# Altium footprint library PcbLib1.PcbLib: 2 footprints
Each footprint in its own frame and in the unit in brackets; x right, y up, seen from the top. Pads: shape width x height; smd on the part's side, far side on the other; paste and mask are expansions set on the pad; w line width, h text height; cw(c..) or ccw(c..) is an arc to the next point about the centre after c.
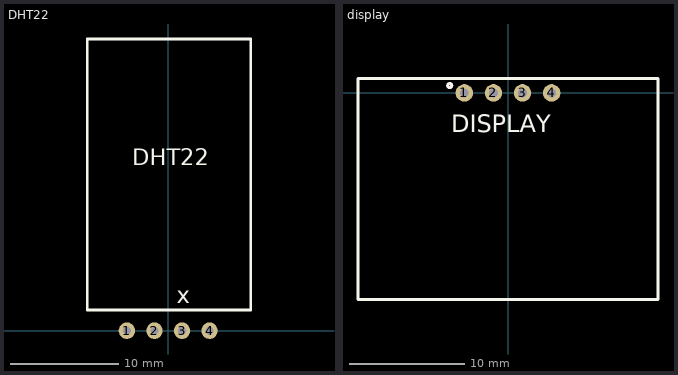
[diagram p0: the footprints below, top view; thin cyan lines are the x and y axes]

## DHT22 [mil]
pads (4):
  round 60 hole 30: 1(-150,0) 2(-50,0) 3(50,0) 4(150,0)
Top Overlay:
  lines w10: -294.49,75 300,75 300,1059.25 -294.49,1059.25 -294.49,75
  text "x" at 30,100 h60
  text "DHT22" at -130,600 h60

## display [mil]
pads (4):
  round 60 hole 30: 1(-150,0) 2(-50,0) 3(50,0) 4(150,0)
Top Overlay:
  circle w10: c-200,25 r7.07
  lines w10: -515,-710 515,-710 515,50 -515,50 -515,-710
  text "DISPLAY" at -194.94,-135 h60